# EAGLE library part ADXL203CE (library tobylib)
2-axis Accelerometer ADXL203 Datasheet <http://www.analog.com/media/en/technical-documentation/data-sheets/ADXL103_203.pdf>
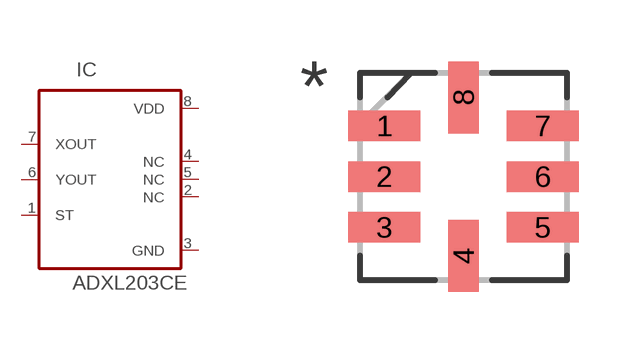
[diagram p0: symbol with the pads of LCC127P500X500X220-8N; footprint LCC127P500X500X220-8N]

Designator prefix IC

## ADXL203CE (AVAILABILITY: Good; DESCRIPTION: Accelerometer Dual ±1.7g 3V to 6V 960mV/g to 1040mV/g 8-Pin CLCC T/R; MF: Analog Devices; MP: ADXL203CE-REEL; PACKAGE: CLCC-8 Analog Devices; PRICE: 19.20 USD)  [LCC127P500X500X220-8N]
1  ST  in
2  NC  pas
3  GND  pwr
4  NC  pas
5  NC  pas
6  YOUT  out
7  XOUT  out
8  VDD  pwr

## Footprint LCC127P500X500X220-8N (pad centres in mm)
smd 1.803 x 0.762: 1 -1.981,1.27; 2 -1.981,0; 3 -1.981,-1.27; 5 1.981,-1.27; 6 1.981,0; 7 1.981,1.27
smd 0.762 x 1.803: 4 0,-1.981; 8 0,1.981